# Altium footprint library Курсовая.PcbLib: 15 footprints
Each footprint in its own frame and in the unit in brackets; x right, y up, seen from the top. Pads: shape width x height; smd on the part's side, far side on the other; paste and mask are expansions set on the pad; w line width, h text height; cw(c..) or ccw(c..) is an arc to the next point about the centre after c.
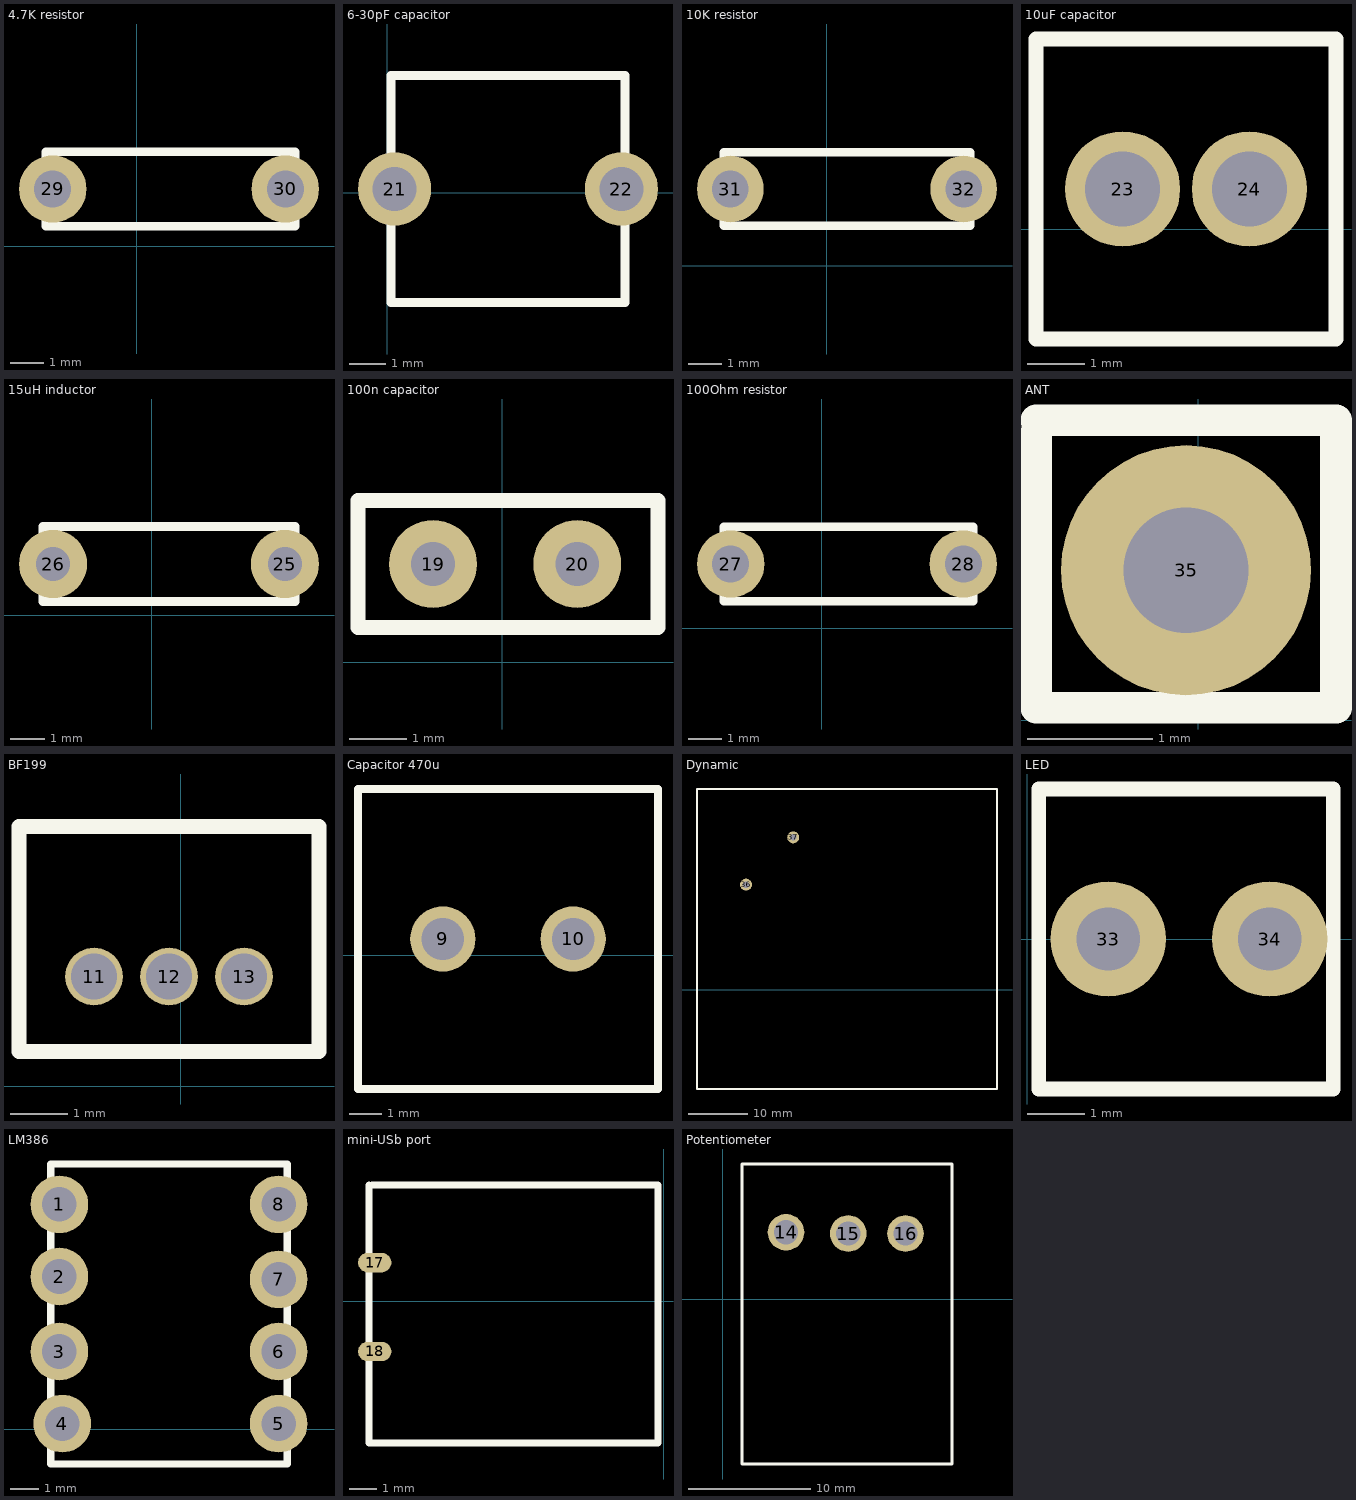
[diagram p0: the footprints below, top view; thin cyan lines are the x and y axes]

## 4.7K resistor [mm]
pads (2):
  round 2 hole 1.1: 29(-2.5,1.7) 30(4.4,1.7)
Top Overlay:
  lines w0.254: -2.7,0.6 -2.7,2.8 4.7,2.8 4.7,0.6 -2.7,0.6
3D body "4.7K resistor v1.step": height 2.2, standoff -1.1, extent -2.6,0.7 4.6,2.7

## 6-30pF capacitor [mm]
pads (2):
  round 2 hole 1.2: 21(0.2,0.1) 22(6.4,0.1)
Top Overlay:
  lines w0.254: 0.1,-3 0.1,3.2 6.5,3.2 6.5,-3 0.1,-3
3D body "6-30pF capacitor v1.step": height 5.5, standoff -2.5, extent 0.2,-2.9 6.4,3.1

## 10K resistor [mm]
pads (2):
  round 2 hole 1.1: 31(-2.9,2.3) 32(4.1,2.3)
Top Overlay:
  lines w0.254: -3.1,1.2 -3.1,3.4 4.3,3.4 4.3,1.2 -3.1,1.2
3D body "10K resistor v1.step": height 2.2, standoff -1.1, extent -3,1.3 4.2,3.3

## 10uF capacitor [mm]
pads (2):
  round 2 hole 1.3: 23(2,0.7) 24(4.2,0.7)
Top Overlay:
  lines w0.254: 0.5,-1.9 5.7,-1.9 5.7,3.3 0.5,3.3 0.5,-1.9
3D body "10uF capacitor v1.step": height 11, standoff -2, extent 0.6,-1.8 5.6,3.2

## 15uH inductor [mm]
pads (2):
  round 2 hole 1: 25(3.9,1.5) 26(-2.9,1.5)
Top Overlay:
  lines w0.254: -3.2,0.4 4.2,0.4 4.2,2.6 -3.2,2.6 -3.2,0.4
3D body "15uH Inductor v0.step": height 2.2, standoff -1.1, extent -3.1,0.5 4.1,2.5

## 100n capacitor [mil]
pads (2):
  round 60 hole 30: 19(-47.24,66.93) 20(51.18,66.93)
Top Overlay:
  lines w10: -98.43,23.62 106.3,23.62 106.3,110.24 -98.43,110.24 -98.43,23.62
3D body "100n capacitor v1.step": height 235.88, standoff -78.74, extent -94.29,27.56 102.17,106.3

## 100Ohm resistor [mm]
pads (2):
  round 2 hole 1.1: 27(-2.7,1.9) 28(4.2,1.9)
Top Overlay:
  lines w0.254: -2.9,0.8 4.5,0.8 4.5,3 -2.9,3 -2.9,0.8
3D body "100 resistor v1.step": height 2.2, standoff -1.1, extent -2.8,0.9 4.4,2.9

## ANT [mm]
pads (1):
  round 2 hole 1: 35(-0.1,1.2)
Top Overlay:
  lines w0.254: -1.3,2.3 -1.3,0.1 1.1,0.1 1.1,2.2 1.1,2.4 -1.2,2.4 -1.3,2.4
3D body "Antenna v1.step": height 10.5, standoff -2.5, extent -4.95,0.95 5.05,1.45

## BF199 [mm]
pads (3):
  round 1 hole 0.8: 11(-1.5,1.9) 12(-0.2,1.9) 13(1.1,1.9)
Top Overlay:
  lines w0.254: -2.8,0.6 -2.8,4.5 2.4,4.5 2.4,0.6 -2.8,0.6
3D body "BF199 v1.step": height 5.5, standoff -2, extent -2.7,0.7 2.3,4.4

## Capacitor 470u [mm]
pads (2):
  round 2 hole 1.3: 9(3.7,0.5) 10(7.7,0.5)
Top Overlay:
  lines w0.254: 1.1,-4.1 1.1,5.1 10.3,5.1 10.3,-4.1 1.1,-4.1
3D body "470uF capacitor v1.step": height 11.8, standoff -2.2, extent 1.2,-4 10.2,5

## Dynamic [mm]
pads (2):
  round 2 hole 1.1: 36(15.9,17.6) 37(23.8,25.5)
Top Overlay:
  lines w0.254: 7.7,-16.6 7.7,33.6 57.9,33.6 57.9,-16.6 7.7,-16.6
3D body "Dynamic v0.step": height 19, standoff -2.5, extent 7.8,-16.493 57.8,33.493

## LED [mm]
pads (2):
  round 2 hole 1.1: 33(1.4,0) 34(4.2,0)
Top Overlay:
  lines w0.254: 0.2,-2.6 0.2,2.6 5.3,2.6 5.3,-2.6 0.2,-2.6
3D body "LED v1.step": height 9.5, standoff -2.5, extent 0.3,-2.498 5.2,2.498

## LM386 [mm]
pads (8):
  round 2 hole 1.2: 1(12.2,7.8) 2(12.2,5.3) 3(12.2,2.7) 4(12.3,0.2) 5(19.8,0.2) 6(19.8,2.7) 7(19.8,5.2) 8(19.8,7.8)
Top Overlay:
  lines w0.254: 11.9,-1.2 11.9,9.2 20.1,9.2 20.1,-1.2 11.9,-1.2
3D body "dip-8.step": height 4.2, standoff -2, extent 12.04,-1.1 19.96,9.1

## mini-USb port [mm]
pads (2):
  oval 1.2x0.7 smd: 17(-10.4,1.4) 18(-10.4,-1.8)
Top Overlay:
  lines w0.254: -10.6,4.2 -10.6,-5.1 -0.2,-5.1 -0.2,4.2 -10.5,4.2
3D body "mini-USB port v1.step": height 3, standoff 0, extent -10.4,-4.9 -0.4,4.1

## Potentiometer [mm]
pads (3):
  round 3 hole 2: 14(5.2,5.5) 15(10.3,5.4) 16(15,5.4)
Top Overlay:
  lines w0.254: 1.6,11 1.6,-13.5 18.8,-13.5 18.8,11.1 1.7,11.1 1.6,11.1
3D body "3RP-1610N-2A1.STEP": height 23.45, standoff -1.5, extent 1.75,-13.4 18.65,10.9